# Altium footprint library ds1070_4mvv6.PcbLib: 1 footprints
Each footprint in its own frame and in the unit in brackets; x right, y up, seen from the top. Pads: shape width x height; smd on the part's side, far side on the other; paste and mask are expansions set on the pad; w line width, h text height; cw(c..) or ccw(c..) is an arc to the next point about the centre after c.
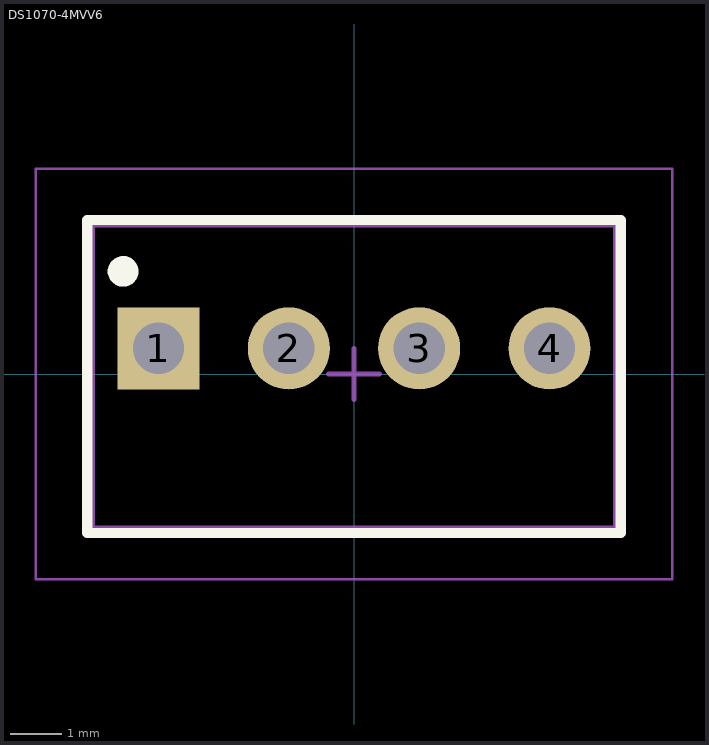
[diagram p0: the footprint, top view; thin cyan lines are the x and y axes]

## DS1070-4MVV6 [mm] "Socket Header, 4 Pins, 2,54mm, V/T Type"
height 11.5
pads (4):
  rect 1.6x1.6 hole 1: 1(-3.81,0.5)
  round 1.6 hole 1: 2(-1.27,0.5) 3(1.27,0.5) 4(3.81,0.5)
Top Overlay:
  circle w0.3: c-4.5,2 r0.15
  lines w0.2: -5.2,-3.1 -5.2,3 0,3 5.2,3 5.2,-3.1 -5.2,-3.1
Top Comment:
  text ".Comment" at 1,4.5 h1.2
Top Designator:
  text ".Designator" at -0.5,4.5 h1.2
Top Component Outline:
  lines w0.1: -5.1,-3 5.1,-3 5.1,2.9 0,2.9 -5.1,2.9 -5.1,-3
Top Courtyard (Mech15):
  lines w0.05: -6.2,-4 -6.2,4 0,4 6.2,4 6.2,-4 -6.2,-4
  lines w0.1: -0.5,0 0.5,0 ; 0,-0.5 0,0.5
3D body "User Library-DS1070-4 (WF-4 CONNFLY).step": height 11.45, standoff -3.25, extent -5.08,-3 5.08,2.9